# Altium schematic symbol library jumper.SchLib: 1 symbol
Pins are listed as number, name and electrical type; pins without a type are passive.

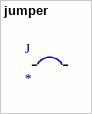
[diagram p0: symbol jumper]

## jumper
designator J
footprint Jumper
pins: 1, 2